# Altium schematic symbol library kmilo17pet-Microchip_Flash.SchLib: 291 symbols (part 37 of 37)
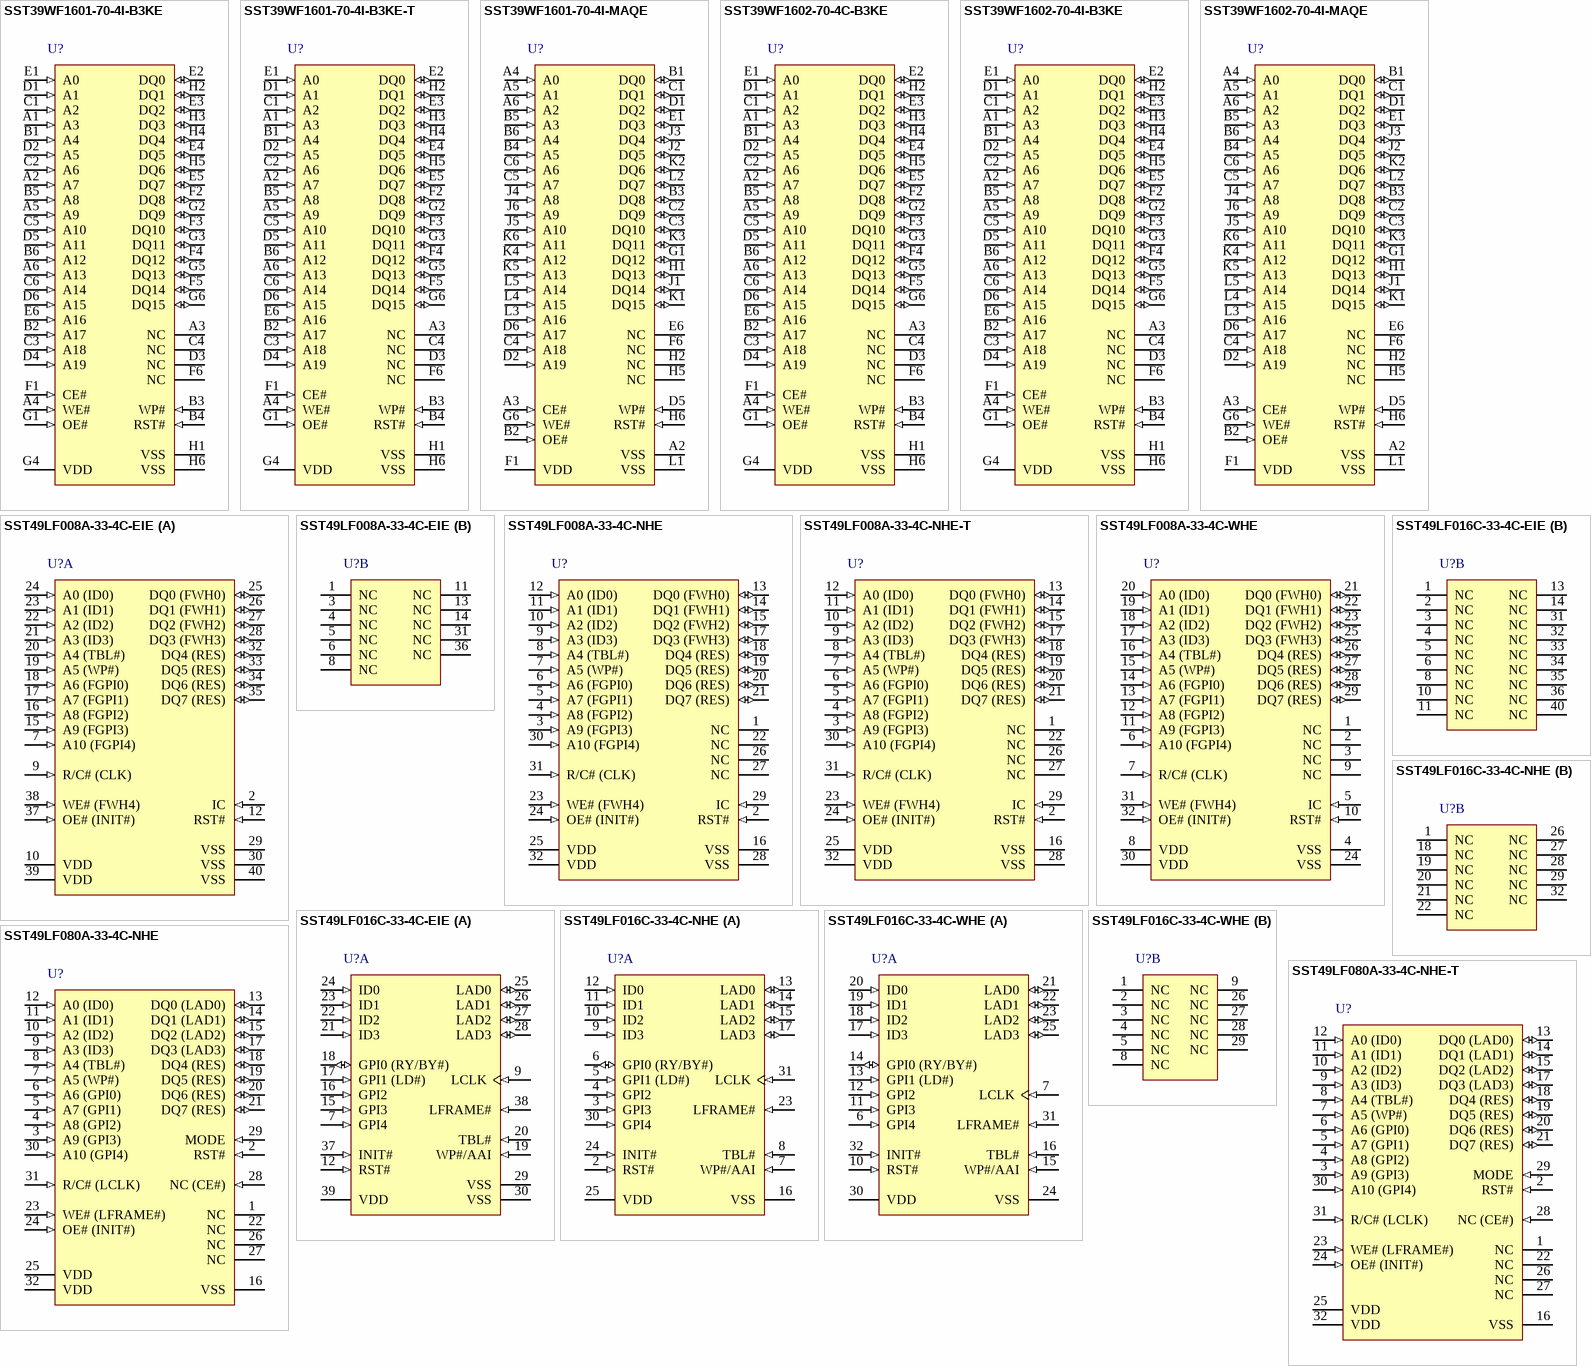
[diagram p51: symbols SST39WF1601-70-4I-B3KE to SST49LF080A-33-4C-NHE-T]

## SST49LF008A-33-4C-EIE
designator U?
8 Mbit LPC Firmware Flash, 3 to 3.6 V, 33 MHz, 0 to 70 degC, 40-pin TSOP (EI40), Tray; Manufacturer: Microchip; PartNumber: SST49LF008A-33-4C-EIE; DatasheetVersion: Rev. A; PackageVersion: Rev. A; PackageReference: TSOP-EI40; PackageDescription: 40-Lead Thin Small Outline Package, 18.4 x 10 mm Body, 0.5 mm Pitch; Supplier 1: Digi-Key; Supplier Part Number 1: SST49LF008A-33-4C-EIE-ND; Mounting Technology: Surface Mount; Code_JEDEC: MO-142; ComponentLink1Description: Manufacturer URL; ComponentLink1URL: http://www.microchip.com; ComponentLink2Description: Datasheet; ComponentLink2URL: http://ww1.microchip.com/downloads/en/DeviceDoc/25085A.pdf; ComponentLink3Description: Package Specification; ComponentLink3URL: http://ww1.microchip.com/downloads/en/DeviceDoc/25085A.pdf; ComponentLink4Description: Product URL; ComponentLink4URL: http://www.microchip.com/SST49LF008A
footprint MCHP-TSOP-EI40_N (SOP, 40-Leads, Body 18.4x10mm, Pitch 0.5mm, IPC Medium Density)
footprint MCHP-TSOP-EI40_L (SOP, 40-Leads, Body 18.4x10mm, Pitch 0.5mm, IPC High Density)
footprint MCHP-TSOP-EI40_M (SOP, 40-Leads, Body 18.4x10mm, Pitch 0.5mm, IPC Low Density)
part A pins: 2 IC (in) "This pin determines which interface is operational. When held high, programmer mode is enabled and when held low, FWH mode is enabled. This pin must be setup at power-up or before return from reset and not change during (See Datasheet)", 7 A10 (FGPI4) (in), 9 R/C# (CLK) (in), 10 VDD (power) "To provide power supply (3.0-3.6V)", 12 RST# (in) "To reset the operation of the device", 15 A9 (FGPI3) (in), 16 A8 (FGPI2) (in), 17 A7 (FGPI1) (in), 18 A6 (FGPI0) (in), 19 A5 (WP#) (in), 20 A4 (TBL#) (in), 21 A3 (ID3) (in), 22 A2 (ID2) (in), 23 A1 (ID1) (in), 24 A0 (ID0) (in), 25 DQ0 (FWH0) (io), 26 DQ1 (FWH1) (io), 27 DQ2 (FWH2) (io), 28 DQ3 (FWH3) (io), 29 VSS (power) "Circuit ground (OV reference) All VSS pins must be grounded.", 30 VSS (power) "Circuit ground (OV reference) All VSS pins must be grounded.", 32 DQ4 (RES) (io), 33 DQ5 (RES) (io), 34 DQ6 (RES) (io), 35 DQ7 (RES) (io), 37 OE# (INIT#) (in), 38 WE# (FWH4) (in), 39 VDD (power) "To provide power supply (3.0-3.6V)", 40 VSS (power) "Circuit ground (OV reference) All VSS pins must be grounded."
part B pins: 1 NC "Unconnected pins", 3 NC "Unconnected pins", 4 NC "Unconnected pins", 5 NC "Unconnected pins", 6 NC "Unconnected pins", 8 NC "Unconnected pins", 11 NC "Unconnected pins", 13 NC "Unconnected pins", 14 NC "Unconnected pins", 31 NC "Unconnected pins", 36 NC "Unconnected pins"

## SST49LF008A-33-4C-NHE
designator U?
8 Mbit LPC Firmware Flash, 3 to 3.6 V, 33 MHz, 0 to 70 degC, 32-pin PLCC (NH32), Tube; Manufacturer: Microchip; PartNumber: SST49LF008A-33-4C-NHE; DatasheetVersion: Rev. A; PackageVersion: Rev. A; PackageReference: PLCC-NH32; PackageDescription: 32-lead Plastic Lead Chip Carrier, 11.43 x 13.97 mm Body, 1.27 mm Pitch; Supplier 1: Digi-Key; Supplier Part Number 1: SST49LF008A-33-4C-NHE-ND; Mounting Technology: Surface Mount; Code_JEDEC: MS-016; ComponentLink1Description: Manufacturer URL; ComponentLink1URL: http://www.microchip.com; ComponentLink2Description: Datasheet; ComponentLink2URL: http://ww1.microchip.com/downloads/en/DeviceDoc/25085A.pdf; ComponentLink3Description: Package Specification; ComponentLink3URL: http://ww1.microchip.com/downloads/en/DeviceDoc/25022A.pdf; ComponentLink4Description: Product URL; ComponentLink4URL: http://www.microchip.com/SST49LF008A
footprint MCHP-PLCC-NH32_N (PLCC, 32-Leads, Body 13.97x11.43mm, Pitch 1.27mm, IPC Medium Density)
footprint MCHP-PLCC-NH32_L (PLCC, 32-Leads, Body 13.97x11.43mm, Pitch 1.27mm, IPC High Density)
footprint MCHP-PLCC-NH32_M (PLCC, 32-Leads, Body 13.97x11.43mm, Pitch 1.27mm, IPC Low Density)
pins: 1 NC "Unconnected pins", 2 RST# (in) "To reset the operation of the device", 3 A9 (FGPI3) (in), 4 A8 (FGPI2) (in), 5 A7 (FGPI1) (in), 6 A6 (FGPI0) (in), 7 A5 (WP#) (in), 8 A4 (TBL#) (in), 9 A3 (ID3) (in), 10 A2 (ID2) (in), 11 A1 (ID1) (in), 12 A0 (ID0) (in), 13 DQ0 (FWH0) (io), 14 DQ1 (FWH1) (io), 15 DQ2 (FWH2) (io), 16 VSS (power) "Circuit ground (OV reference) All VSS pins must be grounded.", 17 DQ3 (FWH3) (io), 18 DQ4 (RES) (io), 19 DQ5 (RES) (io), 20 DQ6 (RES) (io), 21 DQ7 (RES) (io), 22 NC "Unconnected pins", 23 WE# (FWH4) (in), 24 OE# (INIT#) (in), 25 VDD (power) "To provide power supply (3.0-3.6V)", 26 NC "Unconnected pins", 27 NC "Unconnected pins", 28 VSS (power) "Circuit ground (OV reference) All VSS pins must be grounded.", 29 IC (in) "This pin determines which interface is operational. When held high, programmer mode is enabled and when held low, FWH mode is enabled. This pin must be setup at power-up or before return from reset and not change during (See Datasheet)", 30 A10 (FGPI4) (in), 31 R/C# (CLK) (in), 32 VDD (power) "To provide power supply (3.0-3.6V)"

## SST49LF008A-33-4C-NHE-T
designator U?
8 Mbit LPC Firmware Flash, 3 to 3.6 V, 33 MHz, 0 to 70 degC, 32-pin PLCC (NH32), Tape and Reel; Manufacturer: Microchip; PartNumber: SST49LF008A-33-4C-NHE-T; DatasheetVersion: Rev. A; PackageVersion: Rev. A; PackageReference: PLCC-NH32; PackageDescription: 32-lead Plastic Lead Chip Carrier, 11.43 x 13.97 mm Body, 1.27 mm Pitch; Supplier 1: Digi-Key; Supplier Part Number 1: SST49LF008A-33-4C-NHE-T-ND; Mounting Technology: Surface Mount; Code_JEDEC: MS-016; ComponentLink1Description: Manufacturer URL; ComponentLink1URL: http://www.microchip.com; ComponentLink2Description: Datasheet; ComponentLink2URL: http://ww1.microchip.com/downloads/en/DeviceDoc/25085A.pdf; ComponentLink3Description: Package Specification; ComponentLink3URL: http://ww1.microchip.com/downloads/en/DeviceDoc/25022A.pdf; ComponentLink4Description: Product URL; ComponentLink4URL: http://www.microchip.com/SST49LF008A
footprint MCHP-PLCC-NH32_N (PLCC, 32-Leads, Body 13.97x11.43mm, Pitch 1.27mm, IPC Medium Density)
footprint MCHP-PLCC-NH32_L (PLCC, 32-Leads, Body 13.97x11.43mm, Pitch 1.27mm, IPC High Density)
footprint MCHP-PLCC-NH32_M (PLCC, 32-Leads, Body 13.97x11.43mm, Pitch 1.27mm, IPC Low Density)
pins: 1 NC "Unconnected pins", 2 RST# (in) "To reset the operation of the device", 3 A9 (FGPI3) (in), 4 A8 (FGPI2) (in), 5 A7 (FGPI1) (in), 6 A6 (FGPI0) (in), 7 A5 (WP#) (in), 8 A4 (TBL#) (in), 9 A3 (ID3) (in), 10 A2 (ID2) (in), 11 A1 (ID1) (in), 12 A0 (ID0) (in), 13 DQ0 (FWH0) (io), 14 DQ1 (FWH1) (io), 15 DQ2 (FWH2) (io), 16 VSS (power) "Circuit ground (OV reference) All VSS pins must be grounded.", 17 DQ3 (FWH3) (io), 18 DQ4 (RES) (io), 19 DQ5 (RES) (io), 20 DQ6 (RES) (io), 21 DQ7 (RES) (io), 22 NC "Unconnected pins", 23 WE# (FWH4) (in), 24 OE# (INIT#) (in), 25 VDD (power) "To provide power supply (3.0-3.6V)", 26 NC "Unconnected pins", 27 NC "Unconnected pins", 28 VSS (power) "Circuit ground (OV reference) All VSS pins must be grounded.", 29 IC (in) "This pin determines which interface is operational. When held high, programmer mode is enabled and when held low, FWH mode is enabled. This pin must be setup at power-up or before return from reset and not change during (See Datasheet)", 30 A10 (FGPI4) (in), 31 R/C# (CLK) (in), 32 VDD (power) "To provide power supply (3.0-3.6V)"

## SST49LF008A-33-4C-WHE
designator U?
8 Mbit LPC Firmware Flash, 3 to 3.6 V, 33 MHz, 0 to 70 degC, 32-pin TSOP (WH32), Tray; Manufacturer: Microchip; PartNumber: SST49LF008A-33-4C-WHE; DatasheetVersion: Rev. A; PackageVersion: Rev. A; PackageReference: TSOP-WH32; PackageDescription: 32-Lead Thin Small Outline Package, 12.4 x 8 mm Body, 0.5 mm Pitch; Supplier 1: Digi-Key; Supplier Part Number 1: SST49LF008A-33-4C-WHE-ND; Mounting Technology: Surface Mount; Code_JEDEC: MO-142; ComponentLink1Description: Manufacturer URL; ComponentLink1URL: http://www.microchip.com; ComponentLink2Description: Datasheet; ComponentLink2URL: http://ww1.microchip.com/downloads/en/DeviceDoc/25085A.pdf; ComponentLink3Description: Package Specification; ComponentLink3URL: http://ww1.microchip.com/downloads/en/DeviceDoc/25022A.pdf; ComponentLink4Description: Product URL; ComponentLink4URL: http://www.microchip.com/SST49LF008A
footprint MCHP-TSOP-WH32_N (SOP, 32-Leads, Body 12.4x8mm, Pitch 0.5mm, IPC Medium Density)
footprint MCHP-TSOP-WH32_L (SOP, 32-Leads, Body 12.4x8mm, Pitch 0.5mm, IPC High Density)
footprint MCHP-TSOP-WH32_M (SOP, 32-Leads, Body 12.4x8mm, Pitch 0.5mm, IPC Low Density)
pins: 1 NC "Unconnected pins", 2 NC "Unconnected pins", 3 NC "Unconnected pins", 4 VSS (power) "Circuit ground (OV reference) All VSS pins must be grounded.", 5 IC (in) "This pin determines which interface is operational. When held high, programmer mode is enabled and when held low, FWH mode is enabled. This pin must be setup at power-up or before return from reset and not change during (See Datasheet)", 6 A10 (FGPI4) (in), 7 R/C# (CLK) (in), 8 VDD (power) "To provide power supply (3.0-3.6V)", 9 NC "Unconnected pins", 10 RST# (in) "To reset the operation of the device", 11 A9 (FGPI3) (in), 12 A8 (FGPI2) (in), 13 A7 (FGPI1) (in), 14 A6 (FGPI0) (in), 15 A5 (WP#) (in), 16 A4 (TBL#) (in), 17 A3 (ID3) (in), 18 A2 (ID2) (in), 19 A1 (ID1) (in), 20 A0 (ID0) (in), 21 DQ0 (FWH0) (io), 22 DQ1 (FWH1) (io), 23 DQ2 (FWH2) (io), 24 VSS (power) "Circuit ground (OV reference) All VSS pins must be grounded.", 25 DQ3 (FWH3) (io), 26 DQ4 (RES) (io), 27 DQ5 (RES) (io), 28 DQ6 (RES) (io), 29 DQ7 (RES) (io), 30 VDD (power) "To provide power supply (3.0-3.6V)", 31 WE# (FWH4) (in), 32 OE# (INIT#) (in)

## SST49LF016C-33-4C-EIE
designator U?
16 Mbit LPC Serial Flash, 3 to 3.6 V, 33 MHz, 0 to 70 degC, 40-pin TSOP (EI40), Tray; Manufacturer: Microchip; PartNumber: SST49LF016C-33-4C-EIE; DatasheetVersion: Rev. A; PackageVersion: Rev. A; PackageReference: TSOP-EI40; PackageDescription: 40-Lead Thin Small Outline Package, 18.4 x 10 mm Body, 0.5 mm Pitch; Supplier 1: Digi-Key; Supplier Part Number 1: SST49LF016C-33-4C-EIE-ND; Mounting Technology: Surface Mount; Code_JEDEC: MO-142; ComponentLink1Description: Manufacturer URL; ComponentLink1URL: http://www.microchip.com; ComponentLink2Description: Datasheet; ComponentLink2URL: http://ww1.microchip.com/downloads/en/DeviceDoc/25029A.pdf; ComponentLink3Description: Package Specification; ComponentLink3URL: http://ww1.microchip.com/downloads/en/DeviceDoc/25085A.pdf; ComponentLink4Description: Product URL; ComponentLink4URL: http://www.microchip.com/SST49LF016C
footprint MCHP-TSOP-EI40_N (SOP, 40-Leads, Body 18.4x10mm, Pitch 0.5mm, IPC Medium Density)
footprint MCHP-TSOP-EI40_L (SOP, 40-Leads, Body 18.4x10mm, Pitch 0.5mm, IPC High Density)
footprint MCHP-TSOP-EI40_M (SOP, 40-Leads, Body 18.4x10mm, Pitch 0.5mm, IPC Low Density)
part A pins: 7 GPI4 (in) "These individual inputs can be used for additional board flexibility. The state of these pins can be read through LPC registers. These inputs should be at their desired state before the start of the LPC clock cycle during (See Datasheet)", 9 LCLK (in) "To accept a clock input from the control unit", 12 RST# (in) "To reset the operation of the device", 15 GPI3 (in) "These individual inputs can be used for additional board flexibility. The state of these pins can be read through LPC registers. These inputs should be at their desired state before the start of the LPC clock cycle during (See Datasheet)", 16 GPI2 (in) "These individual inputs can be used for additional board flexibility. The state of these pins can be read through LPC registers. These inputs should be at their desired state before the start of the LPC clock cycle during (See Datasheet)", 17 GPI1 (LD#) (in), 18 GPI0 (RY/BY#) (io), 19 WP#/AAI (in), 20 TBL# (in) "When low, prevents programming to the boot block sectors at top of device memory. When TBL# is high it disables hardware write protection for the top block sectors. This pin cannot be left unconnected. TBL# setting is (See Datasheet)", 21 ID3 (in) "These four pins are part of the mechanism that allows multiple parts to be attached to the same bus. The strapping of these pins is used to identify the component. The boot device must have ID[3:0]=0000, all subsequent (See Datasheet)", 22 ID2 (in) "These four pins are part of the mechanism that allows multiple parts to be attached to the same bus. The strapping of these pins is used to identify the component. The boot device must have ID[3:0]=0000, all subsequent (See Datasheet)", 23 ID1 (in) "These four pins are part of the mechanism that allows multiple parts to be attached to the same bus. The strapping of these pins is used to identify the component. The boot device must have ID[3:0]=0000, all subsequent (See Datasheet)", 24 ID0 (in) "These four pins are part of the mechanism that allows multiple parts to be attached to the same bus. The strapping of these pins is used to identify the component. The boot device must have ID[3:0]=0000, all subsequent (See Datasheet)", 25 LAD0 (io) "To provide LPC bus information, such as addresses and command Inputs/Outputs data.", 26 LAD1 (io) "To provide LPC bus information, such as addresses and command Inputs/Outputs data.", 27 LAD2 (io) "To provide LPC bus information, such as addresses and command Inputs/Outputs data.", 28 LAD3 (io) "To provide LPC bus information, such as addresses and command Inputs/Outputs data.", 29 VSS (power) "Circuit ground (0V reference)", 30 VSS (power) "Circuit ground (0V reference)", 37 INIT# (in) "This is the second reset pin for in-system use. This pin is internally combined with the RST# pin. If this pin or RST# pin is driven low, identical operation is exhibited.", 38 LFRAME# (in) "To indicate the start of a data transfer operation; also used to abort an LPC cycle in progress.", 39 VDD (power) "To provide power supply (3.0-3.6V)"
part B pins: 1 NC "Unconnected pins.", 2 NC "Unconnected pins.", 3 NC "Unconnected pins.", 4 NC "Unconnected pins.", 5 NC "Unconnected pins.", 6 NC "Unconnected pins.", 8 NC "Unconnected pins.", 10 NC "Unconnected pins.", 11 NC "Unconnected pins.", 13 NC "Unconnected pins.", 14 NC "Unconnected pins.", 31 NC "Unconnected pins.", 32 NC "Unconnected pins.", 33 NC "Unconnected pins.", 34 NC "Unconnected pins.", 35 NC "Unconnected pins.", 36 NC "Unconnected pins.", 40 NC "Unconnected pins."

## SST49LF016C-33-4C-NHE
designator U?
16 Mbit LPC Serial Flash, 3 to 3.6 V, 33 MHz, 0 to 70 degC, 32-pin PLCC (NH32), Tube; Manufacturer: Microchip; PartNumber: SST49LF016C-33-4C-NHE; DatasheetVersion: Rev. A; PackageVersion: Rev. A; PackageReference: PLCC-NH32; PackageDescription: 32-lead Plastic Lead Chip Carrier, 11.43 x 13.97 mm Body, 1.27 mm Pitch; Supplier 1: Digi-Key; Supplier Part Number 1: SST49LF016C-33-4C-NHE-ND; Mounting Technology: Surface Mount; Code_JEDEC: MS-016; ComponentLink1Description: Manufacturer URL; ComponentLink1URL: http://www.microchip.com; ComponentLink2Description: Datasheet; ComponentLink2URL: http://ww1.microchip.com/downloads/en/DeviceDoc/25029A.pdf; ComponentLink3Description: Package Specification; ComponentLink3URL: http://ww1.microchip.com/downloads/en/DeviceDoc/25022A.pdf; ComponentLink4Description: Product URL; ComponentLink4URL: http://www.microchip.com/SST49LF016C
footprint MCHP-PLCC-NH32_N (PLCC, 32-Leads, Body 13.97x11.43mm, Pitch 1.27mm, IPC Medium Density)
footprint MCHP-PLCC-NH32_L (PLCC, 32-Leads, Body 13.97x11.43mm, Pitch 1.27mm, IPC High Density)
footprint MCHP-PLCC-NH32_M (PLCC, 32-Leads, Body 13.97x11.43mm, Pitch 1.27mm, IPC Low Density)
part A pins: 2 RST# (in) "To reset the operation of the device", 3 GPI3 (in) "These individual inputs can be used for additional board flexibility. The state of these pins can be read through LPC registers. These inputs should be at their desired state before the start of the LPC clock cycle during (See Datasheet)", 4 GPI2 (in) "These individual inputs can be used for additional board flexibility. The state of these pins can be read through LPC registers. These inputs should be at their desired state before the start of the LPC clock cycle during (See Datasheet)", 5 GPI1 (LD#) (in), 6 GPI0 (RY/BY#) (io), 7 WP#/AAI (in), 8 TBL# (in) "When low, prevents programming to the boot block sectors at top of device memory. When TBL# is high it disables hardware write protection for the top block sectors. This pin cannot be left unconnected. TBL# setting is (See Datasheet)", 9 ID3 (in) "These four pins are part of the mechanism that allows multiple parts to be attached to the same bus. The strapping of these pins is used to identify the component. The boot device must have ID[3:0]=0000, all subsequent (See Datasheet)", 10 ID2 (in) "These four pins are part of the mechanism that allows multiple parts to be attached to the same bus. The strapping of these pins is used to identify the component. The boot device must have ID[3:0]=0000, all subsequent (See Datasheet)", 11 ID1 (in) "These four pins are part of the mechanism that allows multiple parts to be attached to the same bus. The strapping of these pins is used to identify the component. The boot device must have ID[3:0]=0000, all subsequent (See Datasheet)", 12 ID0 (in) "These four pins are part of the mechanism that allows multiple parts to be attached to the same bus. The strapping of these pins is used to identify the component. The boot device must have ID[3:0]=0000, all subsequent (See Datasheet)", 13 LAD0 (io) "To provide LPC bus information, such as addresses and command Inputs/Outputs data.", 14 LAD1 (io) "To provide LPC bus information, such as addresses and command Inputs/Outputs data.", 15 LAD2 (io) "To provide LPC bus information, such as addresses and command Inputs/Outputs data.", 16 VSS (power) "Circuit ground (0V reference)", 17 LAD3 (io) "To provide LPC bus information, such as addresses and command Inputs/Outputs data.", 23 LFRAME# (in) "To indicate the start of a data transfer operation; also used to abort an LPC cycle in progress.", 24 INIT# (in) "This is the second reset pin for in-system use. This pin is internally combined with the RST# pin. If this pin or RST# pin is driven low, identical operation is exhibited.", 25 VDD (power) "To provide power supply (3.0-3.6V)", 30 GPI4 (in) "These individual inputs can be used for additional board flexibility. The state of these pins can be read through LPC registers. These inputs should be at their desired state before the start of the LPC clock cycle during (See Datasheet)", 31 LCLK (in) "To accept a clock input from the control unit"
part B pins: 1 NC "Unconnected pins.", 18 NC "Unconnected pins.", 19 NC "Unconnected pins.", 20 NC "Unconnected pins.", 21 NC "Unconnected pins.", 22 NC "Unconnected pins.", 26 NC "Unconnected pins.", 27 NC "Unconnected pins.", 28 NC "Unconnected pins.", 29 NC "Unconnected pins.", 32 NC "Unconnected pins."

## SST49LF016C-33-4C-WHE
designator U?
16 Mbit LPC Serial Flash, 3 to 3.6 V, 33 MHz, 0 to 70 degC, 32-pin TSOP (WH32), Tray; Manufacturer: Microchip; PartNumber: SST49LF016C-33-4C-WHE; DatasheetVersion: Rev. A; PackageVersion: Rev. A; PackageReference: TSOP-WH32; PackageDescription: 32-Lead Thin Small Outline Package, 12.4 x 8 mm Body, 0.5 mm Pitch; Supplier 1: Digi-Key; Supplier Part Number 1: SST49LF016C-33-4C-WHE-ND; Mounting Technology: Surface Mount; Code_JEDEC: MO-142; ComponentLink1Description: Manufacturer URL; ComponentLink1URL: http://www.microchip.com; ComponentLink2Description: Datasheet; ComponentLink2URL: http://ww1.microchip.com/downloads/en/DeviceDoc/25029A.pdf; ComponentLink3Description: Package Specification; ComponentLink3URL: http://ww1.microchip.com/downloads/en/DeviceDoc/25022A.pdf; ComponentLink4Description: Product URL; ComponentLink4URL: http://www.microchip.com/SST49LF016C
footprint MCHP-TSOP-WH32_N (SOP, 32-Leads, Body 12.4x8mm, Pitch 0.5mm, IPC Medium Density)
footprint MCHP-TSOP-WH32_L (SOP, 32-Leads, Body 12.4x8mm, Pitch 0.5mm, IPC High Density)
footprint MCHP-TSOP-WH32_M (SOP, 32-Leads, Body 12.4x8mm, Pitch 0.5mm, IPC Low Density)
part A pins: 6 GPI4 (in) "These individual inputs can be used for additional board flexibility. The state of these pins can be read through LPC registers. These inputs should be at their desired state before the start of the LPC clock cycle during (See Datasheet)", 7 LCLK (in) "To accept a clock input from the control unit", 10 RST# (in) "To reset the operation of the device", 11 GPI3 (in) "These individual inputs can be used for additional board flexibility. The state of these pins can be read through LPC registers. These inputs should be at their desired state before the start of the LPC clock cycle during (See Datasheet)", 12 GPI2 (in) "These individual inputs can be used for additional board flexibility. The state of these pins can be read through LPC registers. These inputs should be at their desired state before the start of the LPC clock cycle during (See Datasheet)", 13 GPI1 (LD#) (in), 14 GPI0 (RY/BY#) (io), 15 WP#/AAI (in), 16 TBL# (in) "When low, prevents programming to the boot block sectors at top of device memory. When TBL# is high it disables hardware write protection for the top block sectors. This pin cannot be left unconnected. TBL# setting is (See Datasheet)", 17 ID3 (in) "These four pins are part of the mechanism that allows multiple parts to be attached to the same bus. The strapping of these pins is used to identify the component. The boot device must have ID[3:0]=0000, all subsequent (See Datasheet)", 18 ID2 (in) "These four pins are part of the mechanism that allows multiple parts to be attached to the same bus. The strapping of these pins is used to identify the component. The boot device must have ID[3:0]=0000, all subsequent (See Datasheet)", 19 ID1 (in) "These four pins are part of the mechanism that allows multiple parts to be attached to the same bus. The strapping of these pins is used to identify the component. The boot device must have ID[3:0]=0000, all subsequent (See Datasheet)", 20 ID0 (in) "These four pins are part of the mechanism that allows multiple parts to be attached to the same bus. The strapping of these pins is used to identify the component. The boot device must have ID[3:0]=0000, all subsequent (See Datasheet)", 21 LAD0 (io) "To provide LPC bus information, such as addresses and command Inputs/Outputs data.", 22 LAD1 (io) "To provide LPC bus information, such as addresses and command Inputs/Outputs data.", 23 LAD2 (io) "To provide LPC bus information, such as addresses and command Inputs/Outputs data.", 24 VSS (power) "Circuit ground (0V reference)", 25 LAD3 (io) "To provide LPC bus information, such as addresses and command Inputs/Outputs data.", 30 VDD (power) "To provide power supply (3.0-3.6V)", 31 LFRAME# (in) "To indicate the start of a data transfer operation; also used to abort an LPC cycle in progress.", 32 INIT# (in) "This is the second reset pin for in-system use. This pin is internally combined with the RST# pin. If this pin or RST# pin is driven low, identical operation is exhibited."
part B pins: 1 NC "Unconnected pins.", 2 NC "Unconnected pins.", 3 NC "Unconnected pins.", 4 NC "Unconnected pins.", 5 NC "Unconnected pins.", 8 NC "Unconnected pins.", 9 NC "Unconnected pins.", 26 NC "Unconnected pins.", 27 NC "Unconnected pins.", 28 NC "Unconnected pins.", 29 NC "Unconnected pins."

## SST49LF080A-33-4C-NHE
designator U?
8 Mbit LPC Flash, 3 to 3.6 V, 33 MHz, 0 to 70 degC, 32-pin PLCC (NH32), Tube; Manufacturer: Microchip; PartNumber: SST49LF080A-33-4C-NHE; DatasheetVersion: Rev. A; PackageVersion: Rev. A; PackageReference: PLCC-NH32; PackageDescription: 32-lead Plastic Lead Chip Carrier, 11.43 x 13.97 mm Body, 1.27 mm Pitch; Supplier 1: Digi-Key; Supplier Part Number 1: SST49LF080A-33-4C-NHE-ND; Mounting Technology: Surface Mount; Code_JEDEC: MS-016; ComponentLink1Description: Manufacturer URL; ComponentLink1URL: http://www.microchip.com; ComponentLink2Description: Datasheet; ComponentLink2URL: http://ww1.microchip.com/downloads/en/DeviceDoc/25086A.pdf; ComponentLink3Description: Package Specification; ComponentLink3URL: http://ww1.microchip.com/downloads/en/DeviceDoc/25022A.pdf; ComponentLink4Description: Product URL; ComponentLink4URL: http://www.microchip.com/SST49LF080A
footprint MCHP-PLCC-NH32_N (PLCC, 32-Leads, Body 13.97x11.43mm, Pitch 1.27mm, IPC Medium Density)
footprint MCHP-PLCC-NH32_L (PLCC, 32-Leads, Body 13.97x11.43mm, Pitch 1.27mm, IPC High Density)
footprint MCHP-PLCC-NH32_M (PLCC, 32-Leads, Body 13.97x11.43mm, Pitch 1.27mm, IPC Low Density)
pins: 1 NC "Unconnected pins.", 2 RST# (in) "To reset the operation of the device", 3 A9 (GPI3) (in), 4 A8 (GPI2) (in), 5 A7 (GPI1) (in), 6 A6 (GPI0) (in), 7 A5 (WP#) (in), 8 A4 (TBL#) (in), 9 A3 (ID3) (in), 10 A2 (ID2) (in), 11 A1 (ID1) (in), 12 A0 (ID0) (in), 13 DQ0 (LAD0) (io), 14 DQ1 (LAD1) (io), 15 DQ2 (LAD2) (io), 16 VSS (power), 17 DQ3 (LAD3) (io), 18 DQ4 (RES) (io), 19 DQ5 (RES) (io), 20 DQ6 (RES) (io), 21 DQ7 (RES) (io), 22 NC "Unconnected pins.", 23 WE# (LFRAME#) (in), 24 OE# (INIT#) (in), 25 VDD (power), 26 NC "Unconnected pins.", 27 NC "Unconnected pins.", 28 NC (CE#) (in), 29 MODE (in), 30 A10 (GPI4) (in), 31 R/C# (LCLK) (in), 32 VDD (power)

## SST49LF080A-33-4C-NHE-T
designator U?
8 Mbit LPC Flash, 3 to 3.6 V, 33 MHz, 0 to 70 degC, 32-pin PLCC (NH32), Tape and Reel; Manufacturer: Microchip; PartNumber: SST49LF080A-33-4C-NHE-T; DatasheetVersion: Rev. A; PackageVersion: Rev. A; PackageReference: PLCC-NH32; PackageDescription: 32-lead Plastic Lead Chip Carrier, 11.43 x 13.97 mm Body, 1.27 mm Pitch; Supplier 1: Digi-Key; Supplier Part Number 1: SST49LF080A-33-4C-NHE-T-ND; Mounting Technology: Surface Mount; Code_JEDEC: MS-016; ComponentLink1Description: Manufacturer URL; ComponentLink1URL: http://www.microchip.com; ComponentLink2Description: Datasheet; ComponentLink2URL: http://ww1.microchip.com/downloads/en/DeviceDoc/25086A.pdf; ComponentLink3Description: Package Specification; ComponentLink3URL: http://ww1.microchip.com/downloads/en/DeviceDoc/25022A.pdf; ComponentLink4Description: Product URL; ComponentLink4URL: http://www.microchip.com/SST49LF080A
footprint MCHP-PLCC-NH32_N (PLCC, 32-Leads, Body 13.97x11.43mm, Pitch 1.27mm, IPC Medium Density)
footprint MCHP-PLCC-NH32_L (PLCC, 32-Leads, Body 13.97x11.43mm, Pitch 1.27mm, IPC High Density)
footprint MCHP-PLCC-NH32_M (PLCC, 32-Leads, Body 13.97x11.43mm, Pitch 1.27mm, IPC Low Density)
pins: 1 NC "Unconnected pins.", 2 RST# (in) "To reset the operation of the device", 3 A9 (GPI3) (in), 4 A8 (GPI2) (in), 5 A7 (GPI1) (in), 6 A6 (GPI0) (in), 7 A5 (WP#) (in), 8 A4 (TBL#) (in), 9 A3 (ID3) (in), 10 A2 (ID2) (in), 11 A1 (ID1) (in), 12 A0 (ID0) (in), 13 DQ0 (LAD0) (io), 14 DQ1 (LAD1) (io), 15 DQ2 (LAD2) (io), 16 VSS (power), 17 DQ3 (LAD3) (io), 18 DQ4 (RES) (io), 19 DQ5 (RES) (io), 20 DQ6 (RES) (io), 21 DQ7 (RES) (io), 22 NC "Unconnected pins.", 23 WE# (LFRAME#) (in), 24 OE# (INIT#) (in), 25 VDD (power), 26 NC "Unconnected pins.", 27 NC "Unconnected pins.", 28 NC (CE#) (in), 29 MODE (in), 30 A10 (GPI4) (in), 31 R/C# (LCLK) (in), 32 VDD (power)

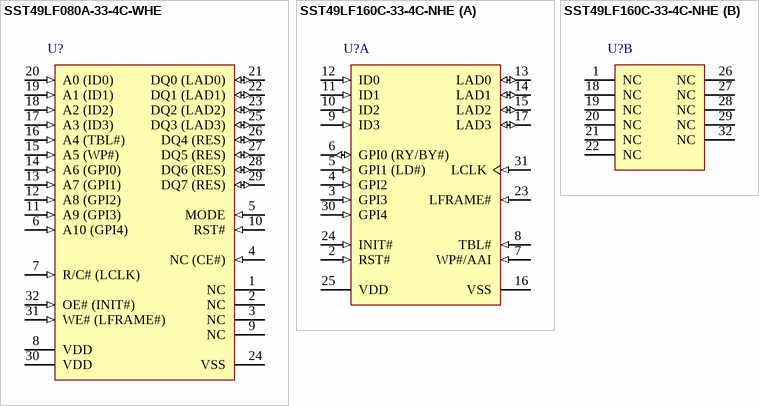
[diagram p15: symbols SST49LF080A-33-4C-WHE to SST49LF160C-33-4C-NHE]

## SST49LF080A-33-4C-WHE
designator U?
8 Mbit LPC Flash, 3 to 3.6 V, 33 MHz, 0 to 70 degC, 32-pin TSOP (WH32), Tray; Manufacturer: Microchip; PartNumber: SST49LF080A-33-4C-WHE; DatasheetVersion: Rev. A; PackageVersion: Rev. A; PackageReference: TSOP-WH32; PackageDescription: 32-Lead Thin Small Outline Package, 12.4 x 8 mm Body, 0.5 mm Pitch; Supplier 1: Digi-Key; Supplier Part Number 1: SST49LF080A-33-4C-WHE-ND; Mounting Technology: Surface Mount; Code_JEDEC: MO-142; ComponentLink1Description: Manufacturer URL; ComponentLink1URL: http://www.microchip.com; ComponentLink2Description: Datasheet; ComponentLink2URL: http://ww1.microchip.com/downloads/en/DeviceDoc/25086A.pdf; ComponentLink3Description: Package Specification; ComponentLink3URL: http://ww1.microchip.com/downloads/en/DeviceDoc/25022A.pdf; ComponentLink4Description: Product URL; ComponentLink4URL: http://www.microchip.com/SST49LF080A
footprint MCHP-TSOP-WH32_N (SOP, 32-Leads, Body 12.4x8mm, Pitch 0.5mm, IPC Medium Density)
footprint MCHP-TSOP-WH32_L (SOP, 32-Leads, Body 12.4x8mm, Pitch 0.5mm, IPC High Density)
footprint MCHP-TSOP-WH32_M (SOP, 32-Leads, Body 12.4x8mm, Pitch 0.5mm, IPC Low Density)
pins: 1 NC "Unconnected pins.", 2 NC "Unconnected pins.", 3 NC "Unconnected pins.", 4 NC (CE#) (in), 5 MODE (in) "This pin determines which interface is operational. When held high, programmer mode is enabled and when held low, LPC mode is enabled. This pin must be setup at power-up or before return from reset and not change during (See Datasheet)", 6 A10 (GPI4) (in), 7 R/C# (LCLK) (in), 8 VDD (power) "To provide power supply (3.0-3.6V)", 9 NC "Unconnected pins.", 10 RST# (in) "To reset the operation of the device", 11 A9 (GPI3) (in), 12 A8 (GPI2) (in), 13 A7 (GPI1) (in), 14 A6 (GPI0) (in), 15 A5 (WP#) (in), 16 A4 (TBL#) (in), 17 A3 (ID3) (in), 18 A2 (ID2) (in), 19 A1 (ID1) (in), 20 A0 (ID0) (in), 21 DQ0 (LAD0) (io), 22 DQ1 (LAD1) (io), 23 DQ2 (LAD2) (io), 24 VSS (power) "Circuit ground (0V reference)", 25 DQ3 (LAD3) (io), 26 DQ4 (RES) (io), 27 DQ5 (RES) (io), 28 DQ6 (RES) (io), 29 DQ7 (RES) (io), 30 VDD (power) "To provide power supply (3.0-3.6V)", 31 WE# (LFRAME#) (in), 32 OE# (INIT#) (in)

## SST49LF160C-33-4C-NHE
designator U?
16 Mbit LPC Flash, 3 to 3.6 V, 33 MHz, 0 to 70 degC, 32-pin PLCC (NH32), Tube; Manufacturer: Microchip; PartNumber: SST49LF160C-33-4C-NHE; DatasheetVersion: Rev. A; PackageVersion: Rev. A; PackageReference: PLCC-NH32; PackageDescription: 32-lead Plastic Lead Chip Carrier, 11.43 x 13.97 mm Body, 1.27 mm Pitch; Supplier 1: Digi-Key; Supplier Part Number 1: SST49LF160C-33-4C-NHE-ND; Mounting Technology: Surface Mount; Code_JEDEC: MS-016; ComponentLink1Description: Manufacturer URL; ComponentLink1URL: http://www.microchip.com; ComponentLink2Description: Datasheet; ComponentLink2URL: http://ww1.microchip.com/downloads/en/DeviceDoc/25099A.pdf; ComponentLink3Description: Package Specification; ComponentLink3URL: http://ww1.microchip.com/downloads/en/DeviceDoc/25022A.pdf; ComponentLink4Description: Product URL; ComponentLink4URL: http://www.microchip.com/SST49LF160C
footprint MCHP-PLCC-NH32_N (PLCC, 32-Leads, Body 13.97x11.43mm, Pitch 1.27mm, IPC Medium Density)
footprint MCHP-PLCC-NH32_L (PLCC, 32-Leads, Body 13.97x11.43mm, Pitch 1.27mm, IPC High Density)
footprint MCHP-PLCC-NH32_M (PLCC, 32-Leads, Body 13.97x11.43mm, Pitch 1.27mm, IPC Low Density)
part A pins: 2 RST# (in) "To reset the operation of the device", 3 GPI3 (in) "These individual inputs can be used for additional board flexibility. The state of these pins can be read through LPC registers. These inputs should be at their desired state before the start of the LPC clock cycle during (See Datasheet)", 4 GPI2 (in) "These individual inputs can be used for additional board flexibility. The state of these pins can be read through LPC registers. These inputs should be at their desired state before the start of the LPC clock cycle during (See Datasheet)", 5 GPI1 (LD#) (in), 6 GPI0 (RY/BY#) (io), 7 WP#/AAI (in), 8 TBL# (in) "When low, prevents programming to the boot block sectors at top of device memory. When TBL# is high it disables hardware write protection for the top block sectors. This pin cannot be left unconnected. TBL# setting is (See Datasheet)", 9 ID3 (in) "These four pins are part of the mechanism that allows multiple parts to be attached to the same bus. The strapping of these pins is used to identify the component. The boot device must have ID[3:0]=0000, all subsequent (See Datasheet)", 10 ID2 (in) "These four pins are part of the mechanism that allows multiple parts to be attached to the same bus. The strapping of these pins is used to identify the component. The boot device must have ID[3:0]=0000, all subsequent (See Datasheet)", 11 ID1 (in) "These four pins are part of the mechanism that allows multiple parts to be attached to the same bus. The strapping of these pins is used to identify the component. The boot device must have ID[3:0]=0000, all subsequent (See Datasheet)", 12 ID0 (in) "These four pins are part of the mechanism that allows multiple parts to be attached to the same bus. The strapping of these pins is used to identify the component. The boot device must have ID[3:0]=0000, all subsequent (See Datasheet)", 13 LAD0 (io) "To provide LPC bus information, such as addresses and command Inputs/Outputs data.", 14 LAD1 (io) "To provide LPC bus information, such as addresses and command Inputs/Outputs data.", 15 LAD2 (io) "To provide LPC bus information, such as addresses and command Inputs/Outputs data.", 16 VSS (power) "Circuit ground (0V reference)", 17 LAD3 (io) "To provide LPC bus information, such as addresses and command Inputs/Outputs data.", 23 LFRAME# (in) "To indicate the start of a data transfer operation; also used to abort an LPC cycle in progress.", 24 INIT# (in) "This is the second reset pin for in-system use. This pin is internally combined with the RST# pin. If this pin or RST# pin is driven low, identical operation is exhibited.", 25 VDD (power) "To provide power supply (3.0-3.6V)", 30 GPI4 (in) "These individual inputs can be used for additional board flexibility. The state of these pins can be read through LPC registers. These inputs should be at their desired state before the start of the LPC clock cycle during (See Datasheet)", 31 LCLK (in) "To accept a clock input from the control unit"
part B pins: 1 NC "Unconnected pins.", 18 NC "Unconnected pins.", 19 NC "Unconnected pins.", 20 NC "Unconnected pins.", 21 NC "Unconnected pins.", 22 NC "Unconnected pins.", 26 NC "Unconnected pins.", 27 NC "Unconnected pins.", 28 NC "Unconnected pins.", 29 NC "Unconnected pins.", 32 NC "Unconnected pins."